# Altium footprint library PMIC - Voltage Regulators - DC DC Switching Regulators.PcbLib: 4 footprints
Each footprint in its own frame and in the unit in brackets; x right, y up, seen from the top. Pads: shape width x height; smd on the part's side, far side on the other; paste and mask are expansions set on the pad; w line width, h text height; cw(c..) or ccw(c..) is an arc to the next point about the centre after c.
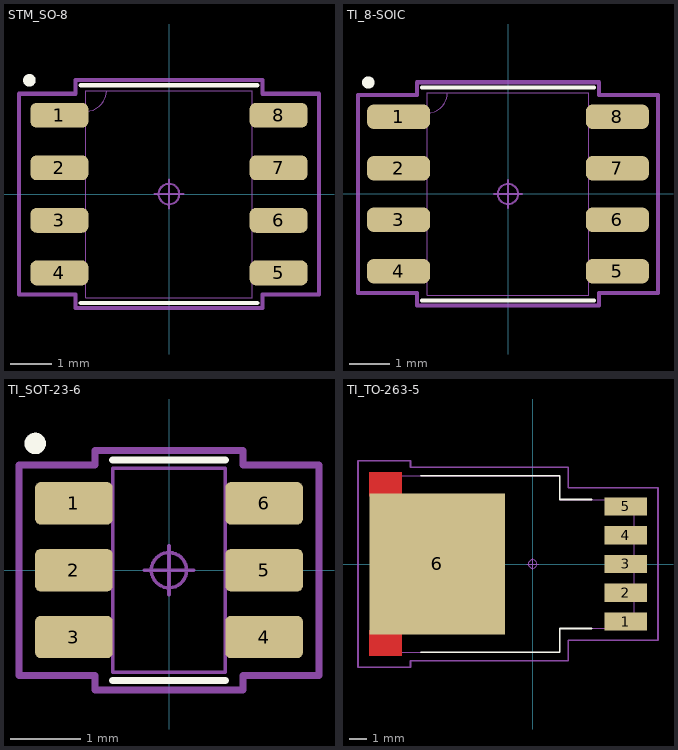
[diagram p0: the footprints below, top view; thin cyan lines are the x and y axes]

## STM_SO-8 [mm]
pads (8):
  rrect50% 1.4x0.6 smd mask+0.04: 1(-2.65,1.905) 2(-2.65,0.635) 3(-2.65,-0.635) 4(-2.65,-1.905) 5(2.65,-1.905) 6(2.65,-0.635) 7(2.65,0.635) 8(2.65,1.905)
Top Overlay:
  circle w0.152: c-3.375,2.75 r0.076
  lines w0.1: -2.134,-2.629 2.134,-2.629 ; -2.134,2.629 2.134,2.629
Mechanical 13:
  lines w0.025: -2.007,2.002 ccw(c-2.007,2.502) -1.507,2.5 ; -3.099,-2.146 -3.099,-1.664 -2.007,-1.664 -2.007,-2.146 -3.099,-2.146 ; -3.099,-0.876 -3.099,-0.394 -2.007,-0.394 -2.007,-0.876 -3.099,-0.876 ; -3.099,0.394 -3.099,0.876 -2.007,0.876 -2.007,0.394 -3.099,0.394 ; -3.099,1.664 -3.099,2.146 -2.007,2.146 -2.007,1.664 -3.099,1.664 ; -2.007,-2.502 2.007,-2.502 2.007,2.502 -2.007,2.502 -2.007,-2.502 ; 2.007,-2.146 2.007,-1.664 3.099,-1.664 3.099,-2.146 2.007,-2.146 ; 2.007,-0.876 2.007,-0.394 3.099,-0.394 3.099,-0.876 2.007,-0.876 ; 2.007,0.394 2.007,0.876 3.099,0.876 3.099,0.394 2.007,0.394 ; 2.007,1.664 2.007,2.146 3.099,2.146 3.099,1.664 2.007,1.664
Mechanical 15:
  circle w0.05: c0,0 r0.25
  lines w0.05: -0.35,0 0.35,0 ; 0,-0.35 0,0.35
  lines w0.1: -3.625,-2.425 -3.625,2.425 -2.261,2.425 -2.261,2.756 2.261,2.756 2.261,2.425 3.625,2.425 3.625,-2.425 2.261,-2.425 2.261,-2.756 -2.261,-2.756 -2.261,-2.425 -3.625,-2.425
3D body "SO-8_STM.step": height 1.76, standoff 0, extent -3.099,-2.502 3.099,2.502

## TI_8-SOIC [mm]
pads (8):
  rrect50% 1.55x0.6 smd mask+0.04: 1(-2.7,1.905) 2(-2.7,0.635) 3(-2.7,-0.635) 4(-2.7,-1.905) 5(2.7,-1.905) 6(2.7,-0.635) 7(2.7,0.635) 8(2.7,1.905)
Top Overlay:
  circle w0.152: c-3.446,2.75 r0.076
  lines w0.1: -2.121,-2.629 2.121,-2.629 ; -2.121,2.629 2.121,2.629
Mechanical 13:
  lines w0.025: -1.994,2.002 ccw(c-1.994,2.502) -1.494,2.5 ; -3.099,-2.159 -3.099,-1.651 -1.994,-1.651 -1.994,-2.159 -3.099,-2.159 ; -3.099,-0.889 -3.099,-0.381 -1.994,-0.381 -1.994,-0.889 -3.099,-0.889 ; -3.099,0.381 -3.099,0.889 -1.994,0.889 -1.994,0.381 -3.099,0.381 ; -3.099,1.651 -3.099,2.159 -1.994,2.159 -1.994,1.651 -3.099,1.651 ; -1.994,-2.502 1.994,-2.502 1.994,2.502 -1.994,2.502 -1.994,-2.502 ; 1.994,-2.159 1.994,-1.651 3.099,-1.651 3.099,-2.159 1.994,-2.159 ; 1.994,-0.889 1.994,-0.381 3.099,-0.381 3.099,-0.889 1.994,-0.889 ; 1.994,0.381 1.994,0.889 3.099,0.889 3.099,0.381 1.994,0.381 ; 1.994,1.651 1.994,2.159 3.099,2.159 3.099,1.651 1.994,1.651
Mechanical 15:
  circle w0.05: c0,0 r0.25
  lines w0.05: -0.35,0 0.35,0 ; 0,-0.35 0,0.35
  lines w0.1: -3.7,-2.438 -3.7,2.438 -2.248,2.438 -2.248,2.756 2.248,2.756 2.248,2.438 3.7,2.438 3.7,-2.438 2.248,-2.438 2.248,-2.756 -2.248,-2.756 -2.248,-2.438 -3.7,-2.438
3D body "M08A.step": height 1.76, standoff 0, extent -3.099,-2.502 3.099,2.502

## TI_SOT-23-6 [mm]
pads (6):
  rrect25% 1.1x0.6 smd mask+0.04: 1(-1.35,0.95) 2(-1.35,0) 3(-1.35,-0.95) 4(1.35,-0.95) 5(1.35,0) 6(1.35,0.95)
Top Overlay:
  circle w0.152: c-1.9,1.8 r0.076
  lines w0.1: -0.8,-1.565 0.8,-1.565 ; -0.8,1.565 0.8,1.565
Mechanical 13:
  lines w0.05: -0.8,-1.45 0.8,-1.45 0.8,1.45 -0.8,1.45 -0.8,-1.45
Mechanical 15:
  circle w0.05: c0,0 r0.25
  lines w0.05: -0.35,0 0.35,0 ; 0,-0.35 0,0.35
  lines w0.1: -2.13,-1.495 -1.05,-1.495 -1.05,-1.7 1.05,-1.7 1.05,-1.495 2.13,-1.495 2.13,1.495 1.05,1.495 1.05,1.7 -1.05,1.7 -1.05,1.495 -2.13,1.495 -2.13,-1.495
3D body "TPS562201DDCR.STEP": height 1.1, standoff 0, extent -1.4,-1.45 1.4,1.45

## TI_TO-263-5 [mm]
pads (6):
  rect 2.5x1.07 smd paste-0.102 mask+0.051: 1(5.5,-3.4) 2(5.5,-1.7) 3(5.5,0.005) 4(5.5,1.7) 5(5.5,3.4)
  rect 8x8.33 smd paste-0.102 mask+0.051: 6(-5.633,0)
Top Layer:
  region: -9.632,-3.9 -9.632,-5.4 -7.722,-5.4 -7.722,-3.9
  region: -9.632,5.4 -9.632,4 -7.722,4 -7.722,5.4
Top Overlay:
  lines w0.1: -6.6,-5.2 1.6,-5.2 1.6,-3.8 3.5,-3.8 ; -6.6,5.2 1.6,5.2 1.6,3.8 3.5,3.8
Top Paste:
  region: -9.531,5.298 -9.531,4.102 -7.824,4.102 -7.824,5.298
  region: -9.531,-4.002 -9.531,-5.298 -7.824,-5.298 -7.824,-4.002
Top Solder:
  region: -9.683,-3.849 -9.683,-5.451 -7.672,-5.451 -7.672,-3.849
  region: -9.683,5.451 -9.683,3.949 -7.672,3.949 -7.672,5.451
Mechanical 13:
  lines w0.025: -8.3,-5.2 1.6,-5.2 1.6,-3.8 6,-3.8 6,3.8 1.6,3.8 1.6,5.2 -8.3,5.2 -8.3,-5.2
Mechanical 15:
  circle w0.05: c0,0 r0.25
  lines w0.05: -0.35,0 0.35,0 ; 0,-0.35 0,0.35
  lines w0.1: -10.3,-6.1 -7.2,-6.1 -7.2,-5.7 2.1,-5.7 2.1,-4.5 7.4,-4.5 7.4,4.5 2.1,4.5 2.1,5.7 -7.2,5.7 -7.2,6.1 -10.3,6.1 -10.3,-6.1
3D body "KTT0005B.stp": height 4.57, standoff -0.15, extent -8.27,-4.98 6.03,5.18